# Altium footprint library 317345774.PcbLib: 1 footprints
Each footprint in its own frame and in the unit in brackets; x right, y up, seen from the top. Pads: shape width x height; smd on the part's side, far side on the other; paste and mask are expansions set on the pad; w line width, h text height; cw(c..) or ccw(c..) is an arc to the next point about the centre after c.
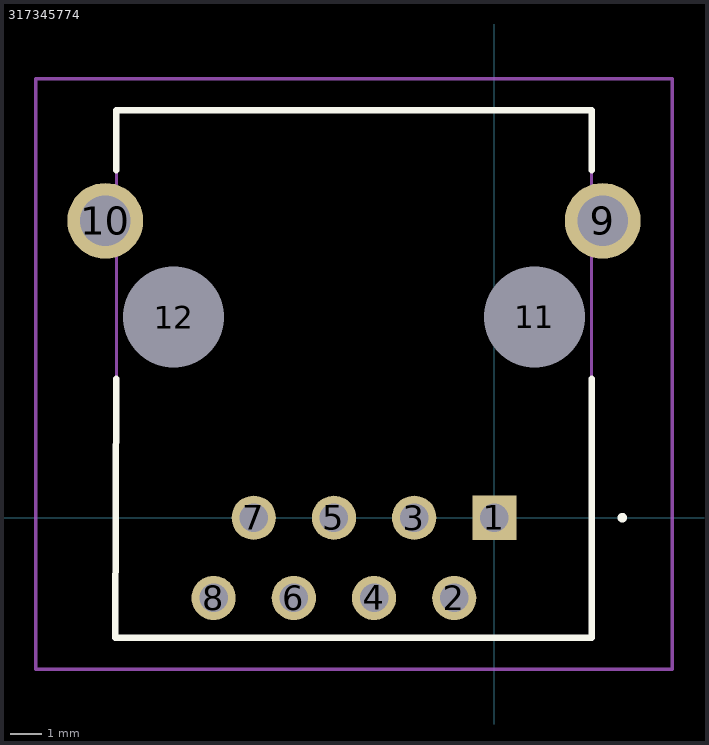
[diagram p0: the footprint, top view; thin cyan lines are the x and y axes]

## 317345774 [mm]
pads (12):
  rect 1.4x1.4 hole 0.9: 1(0,0)
  round 1.4 hole 0.9: 2(-1.27,-2.54) 3(-2.54,0) 4(-3.81,-2.54) 5(-5.08,0) 6(-6.35,-2.54) 7(-7.62,0) 8(-8.89,-2.54)
  round 2.4 hole 1.6: 9(3.43,9.4) 10(-12.32,9.4)
  round 1.6 hole 3.2 unplated: 11(1.27,6.35) 12(-10.16,6.35)
Top Overlay:
  lines w0.2: -11.97,4.4 -12,-3.8 3.08,-3.8 3.08,4.4 ; -11.97,11 -11.97,12.9 3.08,12.9 3.08,11 ; 4,0 4,0 ; 4,0 ccw(c4.05,0) 4.1,0 ; 4,0 cw(c4.05,0) 4.1,0 ; 4,0 4,0 ; 4,0 ccw(c4.05,0) 4.1,0 ; 4.1,0 4.1,0
Mechanical 15:
  lines w0.1: -11.97,-3.8 3.08,-3.8 3.08,12.9 -11.97,12.9 -11.97,-3.8
Mechanical 20:
  lines w0.1: -14.52,-4.8 5.63,-4.8 5.63,13.9 -14.52,13.9 -14.52,-4.8